# EAGLE library part MODULAR-8P8C-DOUBLE (library Jordi)
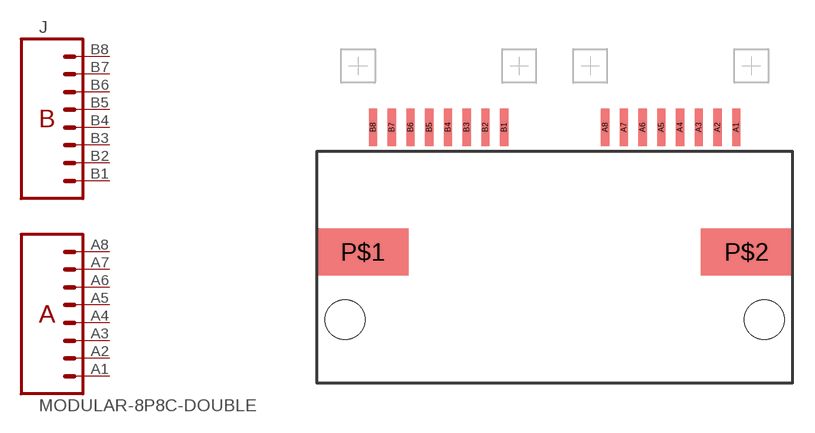
[diagram p32: symbol with the pads of MODULAR-8P8C-SMD-RA-DOUBLE; footprint MODULAR-8P8C-SMD-RA-DOUBLE]

Designator prefix J

## MODULAR-8P8C-DOUBLESMD  [MODULAR-8P8C-SMD-RA-DOUBLE]
A1  A1
A2  A2
A3  A3
A4  A4
A5  A5
A6  A6
A7  A7
A8  A8
B1  B1
B2  B2
B3  B3
B4  B4
B5  B5
B6  B6
B7  B7
B8  B8

## Footprint MODULAR-8P8C-SMD-RA-DOUBLE (pad centres in mm)
Digikey Part <http://www.digikey.com/product-detail/en/RJSSE-5381-02/RJSSE-5381-02-ND>
smd 0.559 x 2.54: A1 12.319,17.374; A2 11.049,17.374; A3 9.779,17.374; A4 8.509,17.374; A5 7.239,17.374; A6 5.969,17.374; A7 4.699,17.374; A8 3.429,17.374; B1 -3.429,17.374; B2 -4.699,17.374; B3 -5.969,17.374; B4 -7.239,17.374; B5 -8.509,17.374; B6 -9.779,17.374; B7 -11.049,17.374; B8 -12.319,17.374
smd 6.223 x 3.175: P$1 -13.018,8.903; P$2 13.018,8.903
hole 2.692 at 14.224,4.318
hole 2.692 at -14.224,4.318